# Altium footprint library B3U3000P.PcbLib: 1 footprints
Each footprint in its own frame and in the unit in brackets; x right, y up, seen from the top. Pads: shape width x height; smd on the part's side, far side on the other; paste and mask are expansions set on the pad; w line width, h text height; cw(c..) or ccw(c..) is an arc to the next point about the centre after c.
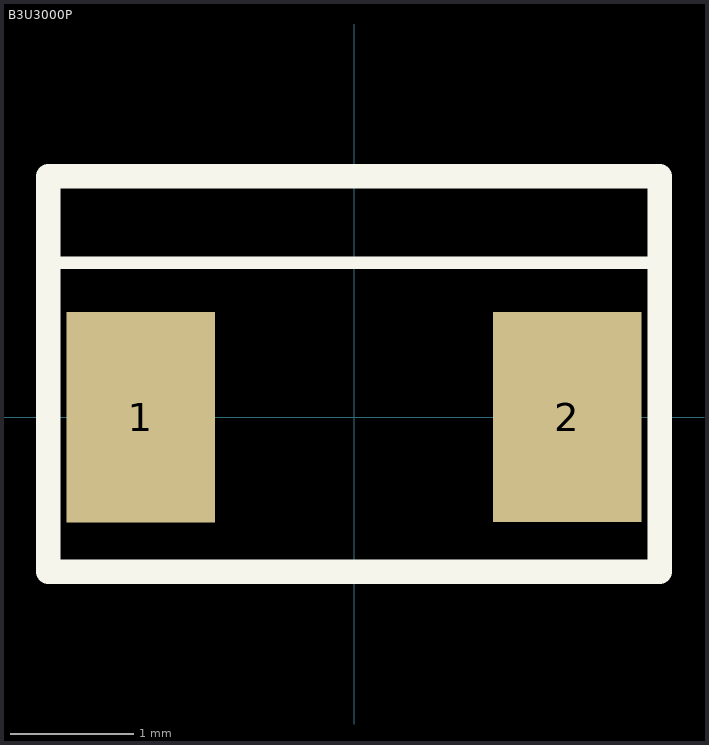
[diagram p0: the footprint, top view; thin cyan lines are the x and y axes]

## B3U3000P [mm]
height 1
pads (2):
  rect 1.2x1.7 smd mask+0.015: 1(-1.725,0) 2(1.725,0)
Top Overlay:
  lines w0.1: -2.475,1.25 2.475,1.25
  lines w0.2: -2.475,-1.25 2.475,-1.25 2.475,1.95 -2.475,1.95 -2.475,-1.25
Top Assembly:
  lines w0.1: -2.475,-1.25 -2.475,1.95 2.475,1.95 2.475,-1.25 -2.475,-1.25
  text "'.Designator'" at -0.925,-0.35 h0.7
3D body "B3U-3000P.stp": height 1.2, standoff 0, extent -1.5,-1.25 1.5,1.95